# EAGLE library part I__4536 (library ..SMD)
Programmable TIMER
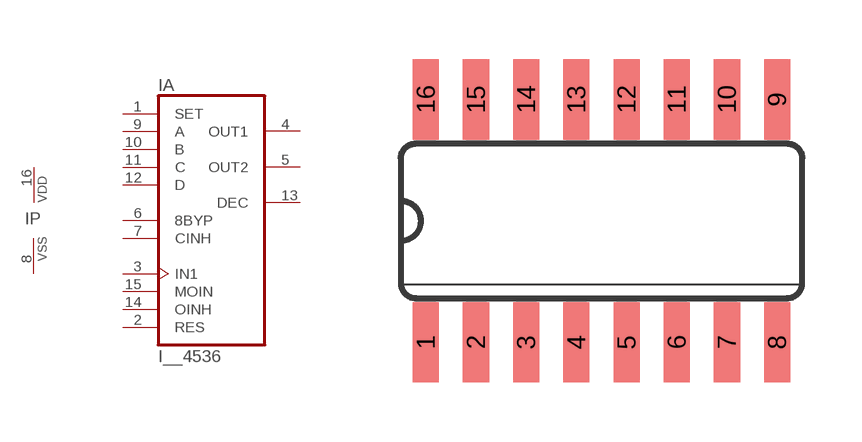
[diagram p118: symbol with the pads of SO16; footprint SO16]

Designator prefix I; gates A=4536 P=PWRN

## I__4536D  [SO16]
1  A:SET  in
2  A:RES  in
3  A:IN1  in
4  A:OUT1  out
5  A:OUT2  out
6  A:8BYP  in
7  A:CINH  in
8  P:VSS  pwr
9  A:A  in
10  A:B  in
11  A:C  in
12  A:D  in
13  A:DEC  out
14  A:OINH  in
15  A:MOIN  in
16  P:VDD  pwr

## Footprint SO16 (pad centres in mm)
Small Outline Package 16
smd 0.66 x 2.032: 1 -4.445,-3.073; 2 -3.175,-3.073; 3 -1.905,-3.073; 4 -0.635,-3.073; 5 0.635,-3.073; 6 1.905,-3.073; 7 3.175,-3.073; 8 4.445,-3.073; 9 4.445,3.073; 10 3.175,3.073; 11 1.905,3.073; 12 0.635,3.073; 13 -0.635,3.073; 14 -1.905,3.073; 15 -3.175,3.073; 16 -4.445,3.073